# Altium schematic symbol library KAM05FR71H104KH.SchLib: 1 symbol
Pins are listed as number, name and electrical type; pins without a type are passive.

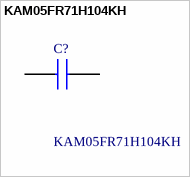
[diagram p0: symbol KAM05FR71H104KH]

## KAM05FR71H104KH
designator C?
0.1 F +/-10% 50V Ceramic Capacitor X7R 0402 (1005 Metric); Manufacturer_Name: Kyocera AVX; Geometry.Height: 0.56mm; Manufacturer_Part_Number: KAM05FR71H104KH; Mouser Part Number: *; Mouser Price/Stock: *; Arrow Part Number: *; Arrow Price/Stock: *; Datasheet Link: https://datasheets.kyocera-avx.com/AutoMLCCKAM.pdf
footprint CAPC1005X56N
pins: 1, 2